# EAGLE library part 686120148922 (library Eagle_FPC_CONNECTOR_AND_FFC_CAB (rev18c))
WR-FPC 1mm SMT Horiz. Bot. Contact Hinge type WR-FPC 1mm 20 pins Hinge type SMT Horizontal Bottom Contact ;=>Code : Con_FPC_ZIF_1.00_6861xx148922_686120148922 <http://katalog.we-online.de/media/images/eican/Con_FPC_ZIF_1.00_686110148922_pf2.jpg> Details see: http://katalog.we-online.de/em/datasheet/6861xx148922.pdf Created 2014-10-08, Karrer Zheng 2014 (C) Wurth Elektronik
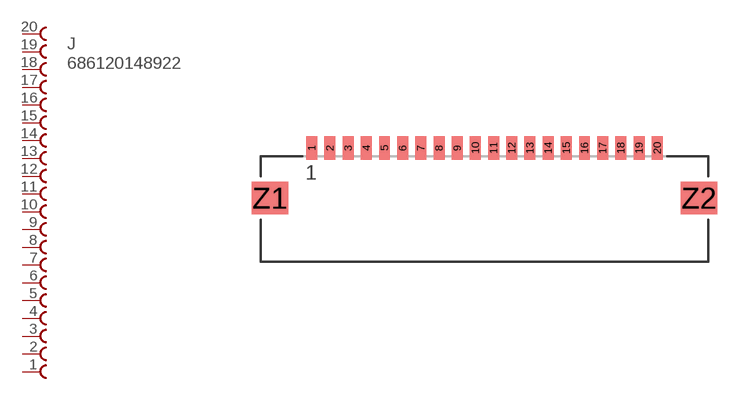
[diagram p98: symbol with the pads of 686120148922; footprint 686120148922]

Designator prefix J

## 686120148922  [686120148922]
1  20  pas
2  19  pas
3  18  pas
4  17  pas
5  16  pas
6  15  pas
7  14  pas
8  13  pas
9  12  pas
10  11  pas
11  10  pas
12  9  pas
13  8  pas
14  7  pas
15  6  pas
16  5  pas
17  4  pas
18  3  pas
19  2  pas
20  1  pas

## Footprint 686120148922 (pad centres in mm)
WR-FPC 1mm SMT Horiz. Bot. Contact Hinge type WR-FPC 1mm 20pins Hinge type SMT Horizontal Bottom Contact
smd 0.6 x 1.3: 1 -9.5,2.75; 2 -8.5,2.75; 3 -7.5,2.75; 4 -6.5,2.75; 5 -5.5,2.75; 6 -4.5,2.75; 7 -3.5,2.75; 8 -2.5,2.75; 9 -1.5,2.75; 10 -0.5,2.75; 11 0.5,2.75; 12 1.5,2.75; 13 2.5,2.75; 14 3.5,2.75; 15 4.5,2.75; 16 5.5,2.75; 17 6.5,2.75; 18 7.5,2.75; 19 8.5,2.75; 20 9.5,2.75
smd 2 x 1.8: Z1 -11.8,0; Z2 11.8,0